# Altium footprint library HDRX2RA-2.5.PcbLib: 1 footprints
Each footprint in its own frame and in the unit in brackets; x right, y up, seen from the top. Pads: shape width x height; smd on the part's side, far side on the other; paste and mask are expansions set on the pad; w line width, h text height; cw(c..) or ccw(c..) is an arc to the next point about the centre after c.
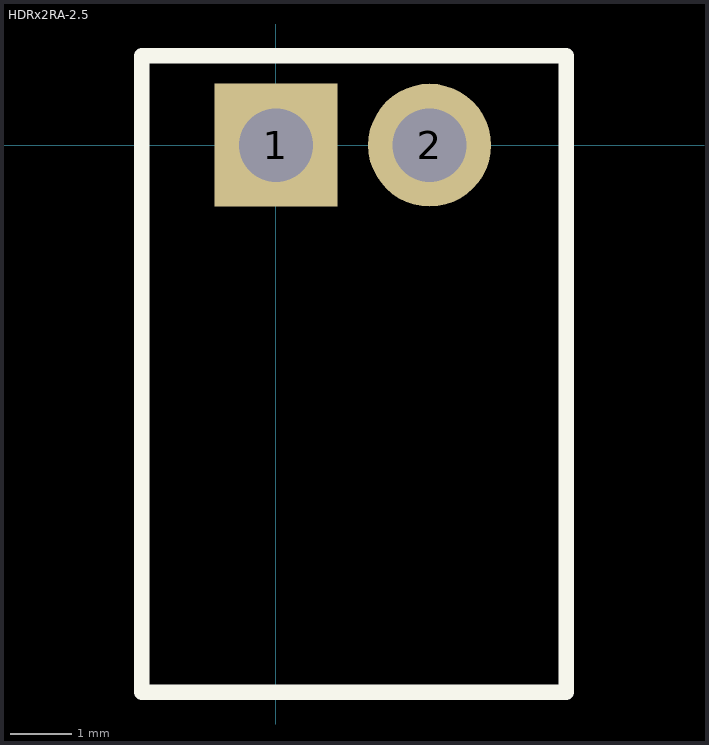
[diagram p0: the footprint, top view; thin cyan lines are the x and y axes]

## HDRx2RA-2.5 [mm]
height 12
pads (2):
  rect 2x2 hole 1.2: 1(0,0)
  round 2 hole 1.2: 2(2.5,0)
Top Overlay:
  lines w0.254: -2.184,-8.9 -2.184,1.454 4.724,1.454 4.724,-8.9 -2.184,-8.9
3D body: height 0, standoff -2, extent 1.905,-0.599 3.1,0.599
3D body: height 0, standoff -2, extent -0.595,-0.599 0.6,0.599
3D body: height 4.6, standoff 3.4, extent 1.914,-8.763 3.11,0.037
3D body: height 4.6, standoff 3.4, extent -0.586,-8.763 0.61,0.037
3D body: height 8, standoff 0, extent 4.47,-8.909 4.724,1.2
3D body: height 8, standoff 0, extent -2.184,-8.909 -1.93,1.2
3D body: height 8, standoff 0, extent -2.184,-2.051 4.724,1.2
3D body: height 1.7, standoff 0, extent -2.184,-8.9 4.699,1.2
3D body: height 8, standoff 6.3, extent -2.184,-8.9 4.699,1.2